# Altium footprint library power.PcbLib: 17 footprints (part 2 of 2)
Each footprint in its own frame and in the unit in brackets; x right, y up, seen from the top. Pads: shape width x height; smd on the part's side, far side on the other; paste and mask are expansions set on the pad; w line width, h text height; cw(c..) or ccw(c..) is an arc to the next point about the centre after c.
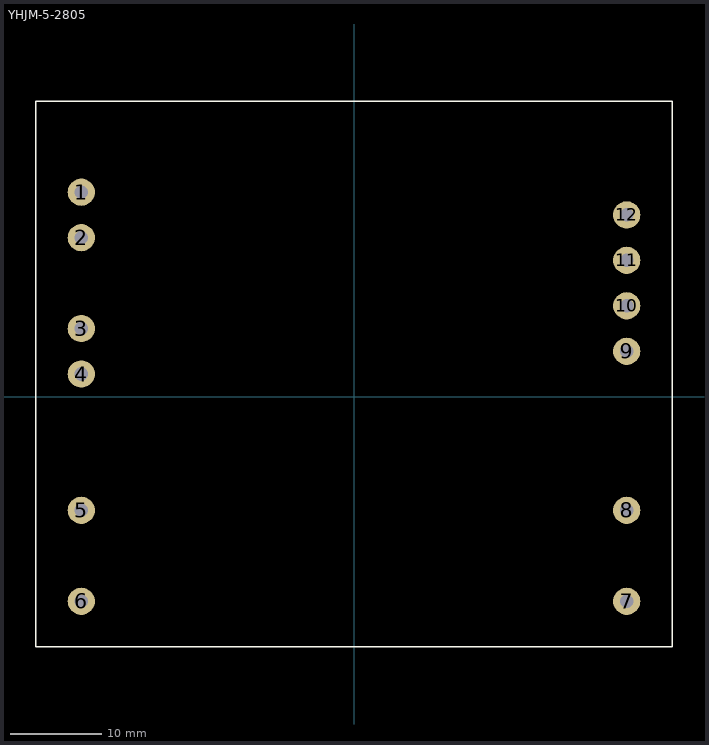
[diagram p1: the footprint, top view; thin cyan lines are the x and y axes]

## YHJM-5-2805 [mm] "DC/DC"
height 9
pads (12):
  round 3 hole 1.5: 1(-30,22.5) 2(-30,17.5) 3(-30,7.5) 4(-30,2.5) 5(-30,-12.5) 6(-30,-22.5) 7(30,-22.5) 8(30,-12.5) 9(30,5) 10(30,10) 11(30,15) 12(30,20)
Top Overlay:
  lines w0.152: -35,-27.5 -35,32.5 35,32.5 35,-27.5 -35,-27.5